# Altium schematic symbol library CH340.SchLib: 4 symbols
Pins are listed as number, name and electrical type; pins without a type are passive.

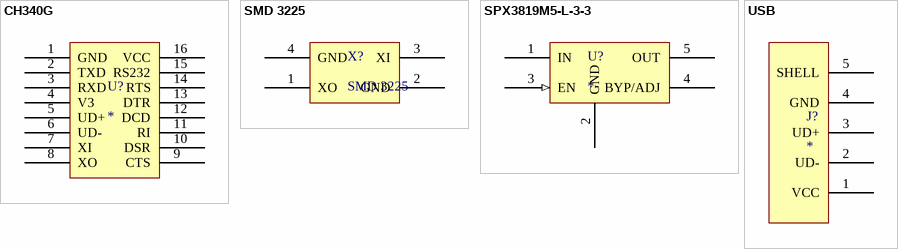
[diagram p0: symbols CH340G to USB]

## CH340G
designator U?
footprint SOP16-50-208
pins: 1 GND (power) "接地", 2 TXD, 3 RXD, 4 V3 (power) "3.3V输出", 5 UD+, 6 UD-, 7 XI, 8 XO, 9 CTS, 10 DSR, 11 RI, 12 DCD, 13 DTR, 14 RTS, 15 RS232, 16 VCC (power)

## SMD 3225
designator X?
footprint SMD 3225 (SMD 3225 12MHz 晶振)
pins: 1 XO, 2 GND, 3 XI, 4 GND

## SPX3819M5-L-3-3
designator U?
footprint SOT25-5
pins: 1 IN (power), 2 GND (power), 3 EN (in), 4 BYP/ADJ, 5 OUT (power)

## USB
designator J?
footprint USB/SM2.5-4H4 (Connector; USB1.1, Type A, SM; 4 Position; Right Angle)
pins: 1 VCC (power), 2 UD-, 3 UD+, 4 GND (power), 5 SHELL